# EAGLE library part CON-10P (library Connectors)
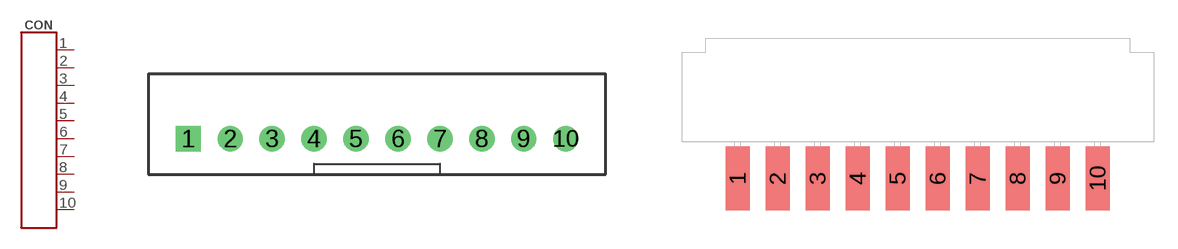
[diagram p27: symbol with the pads of DS1066-10M; footprints DS1066-10M, LAPTOP_BATTERY_CON-F-10P]

Designator prefix CON

## CON-10P-DS1066 (MANF: Connfly electronic; MANF#: DS1066-10M)  [DS1066-10M]
1  1
2  2
3  3
4  4
5  5
6  6
7  7
8  8
9  9
10  10

## CON-10P-LAPTOP_BAT_CON-F-SIDE  [LAPTOP_BATTERY_CON-F-10P]
Pads as for DS1066-10M

## CON-10P-LAPTOP_BAT_CON-M  [LAPTOP_BAT_CON-M]
Pads as for DS1066-10M

## CON-10P-JST-XA (LCSC#: C412095; MANF: JST Sales America; MANF#: B10B-XASK-1(LF)(SN))  [B10B-XASK-1]
Pads as for DS1066-10M

## CON-10P-DS1013 (MANF: Connfly electronic; MANF#: DS1013-10S)  [DS1013-10S]
Pads as for DS1066-10M

## Footprint DS1066-10M (pad centres in mm)
Datasheet <https://static.chipdip.ru/lib/502/DOC001502873.pdf> 3D model <https://grabcad.com/library/ph-connectors-1>
drill 0.7 pad 1.2 square: 1 -9,0
drill 0.7 pad 1.2: 2 -7,0; 3 -5,0; 4 -3,0; 5 -1,0; 6 1,0; 7 3,0; 8 5,0; 9 7,0; 10 9,0

## Footprint LAPTOP_BATTERY_CON-F-10P (pad centres in mm)
Description <https://aliexpress.ru/item/33014684154.html?spm=a2g2w.orderdetails.0.0.6ae74aa6fMF7de&sku_id=67155990978&_ga=2.55872040.2006882710.1664198272-550076064.1628593910>
smd 1.5 x 4: 1 -11.25,-5.55; 2 -8.75,-5.55; 3 -6.25,-5.55; 4 -3.75,-5.55; 5 -1.25,-5.55; 6 1.25,-5.55; 7 3.75,-5.55; 8 6.25,-5.55; 9 8.75,-5.55; 10 11.25,-5.55

## Footprint LAPTOP_BAT_CON-M (pad centres in mm)
smd 1.2 x 6.4: 1 -11.25,-1.6; 2 -8.75,-1.6; 3 -6.25,-1.6; 4 -3.75,-1.6; 5 -1.25,-1.6; 6 1.25,-1.6; 7 3.75,-1.6; 8 6.25,-1.6; 9 8.75,-1.6; 10 11.25,-1.6

## Footprint B10B-XASK-1 (pad centres in mm)
Datasheet <https://datasheet.lcsc.com/lcsc/1811011929_JST-Sales-America-B04B-XASK-1-LF-SN_C264994.pdf>
drill 1 pad 1.6 square: 1 -11.25,0
drill 1 pad 1.6: 2 -8.75,0; 3 -6.25,0; 4 -3.75,0; 5 -1.25,0; 6 1.25,0; 7 3.75,0; 8 6.25,0; 9 8.75,0; 10 11.25,0

## Footprint DS1013-10S (pad centres in mm)
Drawing <https://static.chipdip.ru/lib/463/DOC002463525.pdf> 3D model <https://grabcad.com/library/idc-connector-collection-2-54-mm-1>
drill 1.02 square: 1 -5.08,1.27
drill 1.02: 2 -5.08,-1.27; 3 -2.54,1.27; 4 -2.54,-1.27; 5 0,1.27; 6 0,-1.27; 7 2.54,1.27; 8 2.54,-1.27; 9 5.08,1.27; 10 5.08,-1.27